# Altium schematic symbol library OnSemiG.SchLib: 1 symbol
Pins are listed as number, name and electrical type; pins without a type are passive.

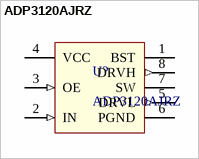
[diagram p0: symbol ADP3120AJRZ]

## ADP3120AJRZ
designator U?
Dual Bootstrapped, 12V MOSFET Driver
footprint SOIC127P600-8N (SOIC, 8-Leads, Body 4.9x3.9mm, Pitch 1.27mm, IPC Medium Density)
pins: 1 BST, 2 IN (in), 3 OE (in), 4 VCC (power), 5 DRVL (out), 6 PGND (power), 7 SW, 8 DRVH (out)